# Altium schematic symbol library U_RT8462_14SOP.SchLib: 1 symbol
Pins are listed as number, name and electrical type; pins without a type are passive.

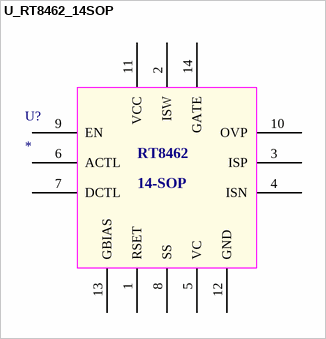
[diagram p0: symbol U_RT8462_14SOP]

## U_RT8462_14SOP
designator U?
pins: 1 RSET, 2 ISW, 3 ISP, 4 ISN, 5 VC, 6 ACTL, 7 DCTL, 8 SS, 9 EN, 10 OVP, 11 VCC, 12 GND, 13 GBIAS, 14 GATE
text: RT8462; 14-SOP